# Altium integrated library Linear Technology Power Management Current Sources.IntLib: 79 symbols (part 3 of 7)
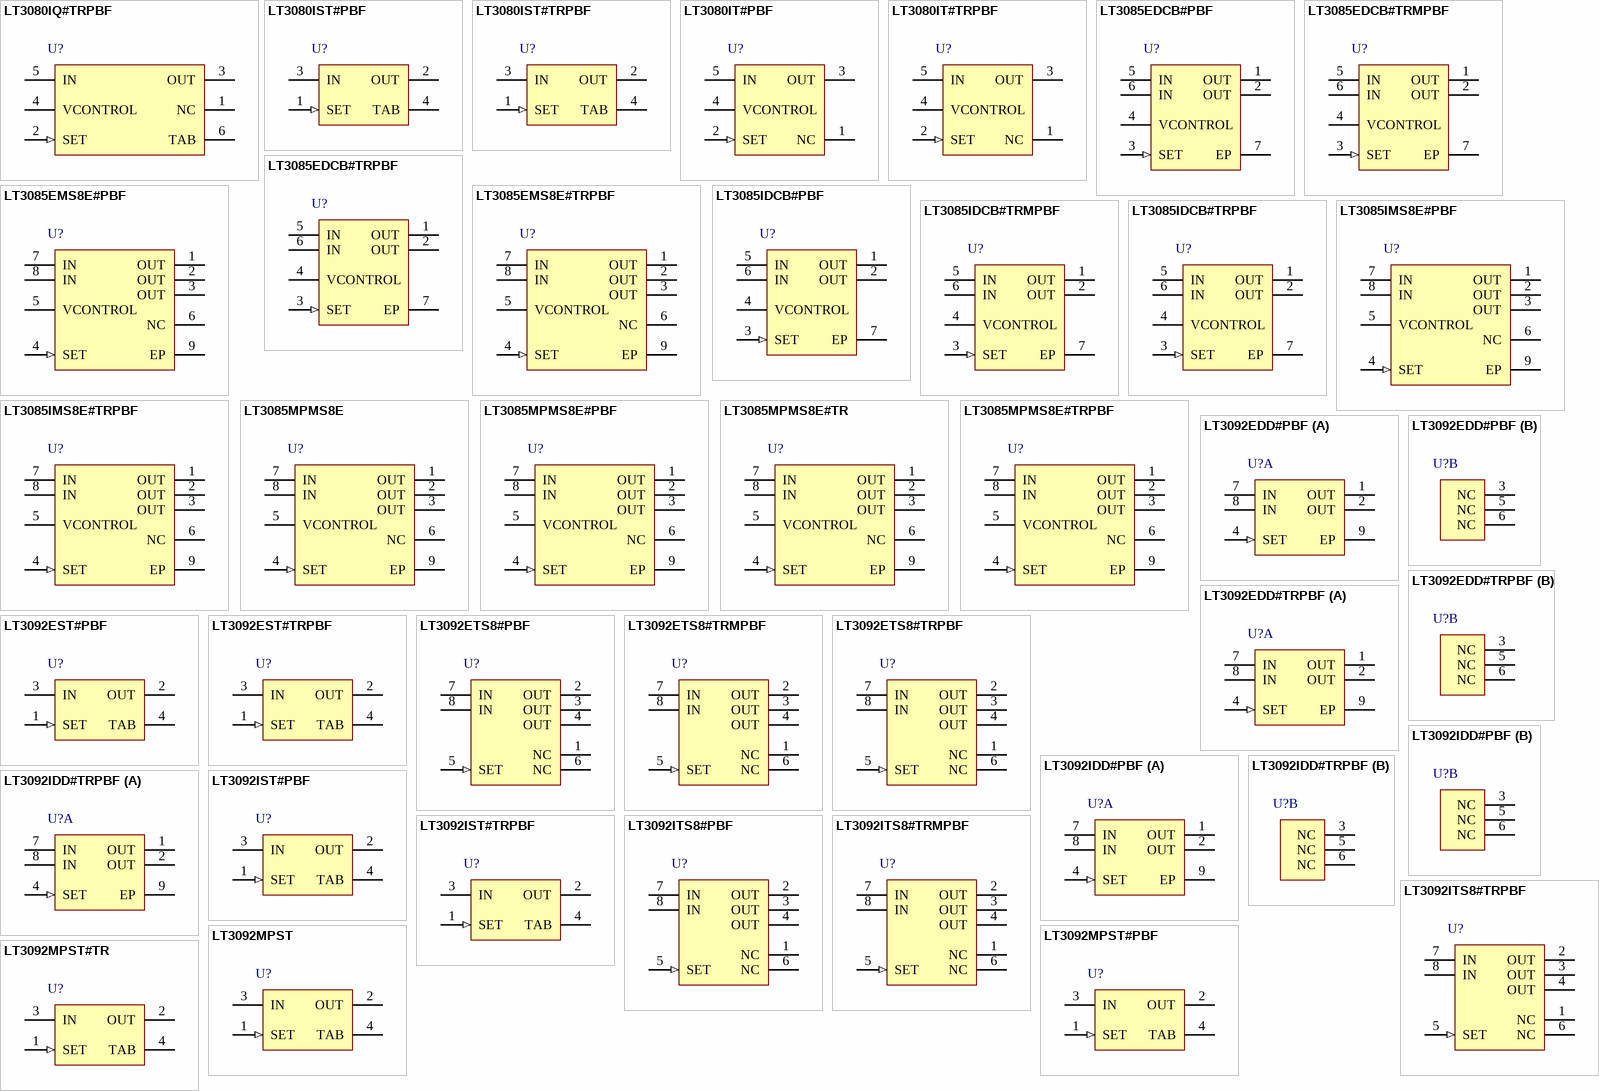
[diagram p4: symbols LT3080IQ#TRPBF to LT3092MPST#TR]

## LT3085EDCB#TRPBF
designator U?
Adjustable 500 mA Single Resistor Low Dropout Regulator, 0.3 mA Isupply, 6-pin SON (DCB-6), -40 to 125 degC, Pb-Free, Tape and Reel; Manufacturer: Linear Technology; PartNumber: LT3085EDCB#TRPBF; Extended Temp: E, I, MP; Initial Accuracy(%): 1; Isupply(mA): 0.3; Vin Max(V): 36; Vin Min(V): 1.2; DatasheetVersion: Rev. B; PackageVersion: Rev. A, 03/2011; PackageReference: DCB-6; PackageDescription: 6-Pin Plastic DFN, Body 2 x 3 mm, Pitch 0.5 mm; Supplier 1: Digi-Key; Supplier Part Number 1: LT3085EDCB#TRPBF-ND; Packing: Tape and Reel; RoHS: TRUE; Mounting Technology: Surface Mount; Code_JEDEC: MO-229; ComponentLink1Description: Manufacturer URL; ComponentLink1URL: http://www.linear.com/; ComponentLink2Description: Datasheet; ComponentLink2URL: http://cds.linear.com/docs/en/datasheet/3085fb.pdf; ComponentLink3Description: Package Specification; ComponentLink3URL: http://www.linear.com/docs/en/packaging/(DCB6)%20DFN%2005-08-1715%20Rev%20A.pdf
footprint LT-DCB-6_V (SON, 6-Leads, Body 3x2mm, Pitch 0.5mm, Thermal Pad 1.65x1.35mm)
pins: 1 OUT (power) "This is the power output of the device. There must be a minimum load current of 1mA or the output may not regulate. A minimum 2.2uF output capacitor is required for stability.", 2 OUT (power) "This is the power output of the device. There must be a minimum load current of 1mA or the output may not regulate. A minimum 2.2uF output capacitor is required for stability.", 3 SET (in) "This pin is the non-inverting input to the error amplifier and the regulation set point for the device. A fixed current of 10uA flows out of this pin through a single external resistor, which programs the output voltage of (See Datasheet)", 4 VCONTROL (power) "This pin is the supply pin for the control circuitry of the device. The current flow into this pin is about 1.7% of the output current. For the device to regulate, this voltage must be more than 1.2V to 1.35V greater than (See Datasheet)", 5 IN (power) "This is the collector to the power device of the LT3085. The output load current is supplied through this pin. For the device to regulate, the voltage at this pin must be more than 0.1V to 0.5V greater than the output (See Datasheet)", 6 IN (power) "This is the collector to the power device of the LT3085. The output load current is supplied through this pin. For the device to regulate, the voltage at this pin must be more than 0.1V to 0.5V greater than the output (See Datasheet)", 7 EP (power) "OUT. Tie directly to Pins 1, 2/Pins 2, 3 directly at the PCB."

## LT3085EMS8E#PBF
designator U?
Adjustable 500 mA Single Resistor Low Dropout Regulator, 0.3 mA Isupply, 8-pin SOP (MS8E-8), -40 to 125 degC, Pb-Free; Manufacturer: Linear Technology; PartNumber: LT3085EMS8E#PBF; Extended Temp: E, I, MP; Initial Accuracy(%): 1; Isupply(mA): 0.3; Vin Max(V): 36; Vin Min(V): 1.2; DatasheetVersion: Rev. B; PackageVersion: Rev. F; PackageReference: MS8E-8; PackageDescription: 8-Pin Plastic MSOP, Exposed Die Pad, Body 3 x 3 mm, Pitch 0.65 mm; Supplier 1: Digi-Key; Supplier Part Number 1: LT3085EMS8E#PBF-ND; Supplier 2: Farnell; Supplier Part Number 2: 1673523; Supplier 3: Newark; Supplier Part Number 3: 12P7608; RoHS: TRUE; Mounting Technology: Surface Mount; ComponentLink1Description: Manufacturer URL; ComponentLink1URL: http://www.linear.com/; ComponentLink2Description: Datasheet; ComponentLink2URL: http://cds.linear.com/docs/en/datasheet/3085fb.pdf; ComponentLink3Description: Package Specification; ComponentLink3URL: http://cds.linear.com/docs/en/datasheet/3080fc.pdf
footprint LT-MS8E-8-1880X1680TP_N (SOP, 8-Leads, Body 3x3mm, Pitch 0.65mm, Thermal Pad 1.88x1.68mm, IPC Medium Density)
footprint LT-MS8E-8-1880X1680TP_L (SOP, 8-Leads, Body 3x3mm, Pitch 0.65mm, Thermal Pad 1.88x1.68mm, IPC High Density)
footprint LT-MS8E-8-1880X1680TP_M (SOP, 8-Leads, Body 3x3mm, Pitch 0.65mm, Thermal Pad 1.88x1.68mm, IPC Low Density)
pins: 1 OUT (power) "This is the power output of the device. There must be a minimum load current of 1mA or the output may not regulate.", 2 OUT (power) "This is the power output of the device. There must be a minimum load current of 1mA or the output may not regulate.", 3 OUT (power) "This is the power output of the device. There must be a minimum load current of 1mA or the output may not regulate.", 4 SET (in) "This pin is the input to the error amplifier and the regulation set point for the device. A fixed current of 10uA flows out of this pin through a single external resistor, which programs the output voltage of the device. (See Datasheet)", 5 VCONTROL (power) "This pin is the supply pin for the control circuitry of the device. The current flow into this pin is about 1.7% of the output current. For the device to regulate, this voltage must be more than 1.2V to 1.35V greater than (See Datasheet)", 6 NC "No Connection. No Connect pins have no connection to internal circuitry and may be tied to VIN, VCONTROL, VOUT , GND, or floated.", 7 IN (power) "This is the collector to the power device of the LT3080-1. The output load current is supplied through this pin. For the device to regulate, the voltage at this pin must be more than 0.1V to 0.5V greater than the output (See Datasheet)", 8 IN (power) "This is the collector to the power device of the LT3080-1. The output load current is supplied through this pin. For the device to regulate, the voltage at this pin must be more than 0.1V to 0.5V greater than the output (See Datasheet)", 9 EP (power) "OUT on MS8E and DFN packages."

## LT3085EMS8E#TRPBF
designator U?
Adjustable 500 mA Single Resistor Low Dropout Regulator, 0.3 mA Isupply, 8-pin SOP (MS8E-8), -40 to 125 degC, Pb-Free, Tape and Reel; Manufacturer: Linear Technology; PartNumber: LT3085EMS8E#TRPBF; Extended Temp: E, I, MP; Initial Accuracy(%): 1; Isupply(mA): 0.3; Vin Max(V): 36; Vin Min(V): 1.2; DatasheetVersion: Rev. B; PackageVersion: Rev. F; PackageReference: MS8E-8; PackageDescription: 8-Pin Plastic MSOP, Exposed Die Pad, Body 3 x 3 mm, Pitch 0.65 mm; Supplier 1: Digi-Key; Supplier Part Number 1: LT3085EMS8E#TRPBF-ND; Supplier 2: Newark; Supplier Part Number 2: 12P7609; Packing: Tape and Reel; RoHS: TRUE; Mounting Technology: Surface Mount; ComponentLink1Description: Manufacturer URL; ComponentLink1URL: http://www.linear.com/; ComponentLink2Description: Datasheet; ComponentLink2URL: http://cds.linear.com/docs/en/datasheet/3085fb.pdf; ComponentLink3Description: Package Specification; ComponentLink3URL: http://cds.linear.com/docs/en/datasheet/3080fc.pdf
footprint LT-MS8E-8-1880X1680TP_N (SOP, 8-Leads, Body 3x3mm, Pitch 0.65mm, Thermal Pad 1.88x1.68mm, IPC Medium Density)
footprint LT-MS8E-8-1880X1680TP_L (SOP, 8-Leads, Body 3x3mm, Pitch 0.65mm, Thermal Pad 1.88x1.68mm, IPC High Density)
footprint LT-MS8E-8-1880X1680TP_M (SOP, 8-Leads, Body 3x3mm, Pitch 0.65mm, Thermal Pad 1.88x1.68mm, IPC Low Density)
pins: 1 OUT (power) "This is the power output of the device. There must be a minimum load current of 1mA or the output may not regulate.", 2 OUT (power) "This is the power output of the device. There must be a minimum load current of 1mA or the output may not regulate.", 3 OUT (power) "This is the power output of the device. There must be a minimum load current of 1mA or the output may not regulate.", 4 SET (in) "This pin is the input to the error amplifier and the regulation set point for the device. A fixed current of 10uA flows out of this pin through a single external resistor, which programs the output voltage of the device. (See Datasheet)", 5 VCONTROL (power) "This pin is the supply pin for the control circuitry of the device. The current flow into this pin is about 1.7% of the output current. For the device to regulate, this voltage must be more than 1.2V to 1.35V greater than (See Datasheet)", 6 NC "No Connection. No Connect pins have no connection to internal circuitry and may be tied to VIN, VCONTROL, VOUT , GND, or floated.", 7 IN (power) "This is the collector to the power device of the LT3080-1. The output load current is supplied through this pin. For the device to regulate, the voltage at this pin must be more than 0.1V to 0.5V greater than the output (See Datasheet)", 8 IN (power) "This is the collector to the power device of the LT3080-1. The output load current is supplied through this pin. For the device to regulate, the voltage at this pin must be more than 0.1V to 0.5V greater than the output (See Datasheet)", 9 EP (power) "OUT on MS8E and DFN packages."

## LT3085IDCB#PBF
designator U?
Adjustable 500 mA Single Resistor Low Dropout Regulator, 0.3 mA Isupply, 6-pin SON (DCB-6), -40 to 125 degC, Pb-Free; Manufacturer: Linear Technology; PartNumber: LT3085IDCB#PBF; Extended Temp: E, I, MP; Initial Accuracy(%): 1; Isupply(mA): 0.3; Vin Max(V): 36; Vin Min(V): 1.2; DatasheetVersion: Rev. B; PackageVersion: Rev. A, 03/2011; PackageReference: DCB-6; PackageDescription: 6-Pin Plastic DFN, Body 2 x 3 mm, Pitch 0.5 mm; RoHS: TRUE; Mounting Technology: Surface Mount; Code_JEDEC: MO-229; ComponentLink1Description: Manufacturer URL; ComponentLink1URL: http://www.linear.com/; ComponentLink2Description: Datasheet; ComponentLink2URL: http://cds.linear.com/docs/en/datasheet/3085fb.pdf; ComponentLink3Description: Package Specification; ComponentLink3URL: http://www.linear.com/docs/en/packaging/(DCB6)%20DFN%2005-08-1715%20Rev%20A.pdf
footprint LT-DCB-6_V (SON, 6-Leads, Body 3x2mm, Pitch 0.5mm, Thermal Pad 1.65x1.35mm)
pins: 1 OUT (power) "This is the power output of the device. There must be a minimum load current of 1mA or the output may not regulate. A minimum 2.2uF output capacitor is required for stability.", 2 OUT (power) "This is the power output of the device. There must be a minimum load current of 1mA or the output may not regulate. A minimum 2.2uF output capacitor is required for stability.", 3 SET (in) "This pin is the non-inverting input to the error amplifier and the regulation set point for the device. A fixed current of 10uA flows out of this pin through a single external resistor, which programs the output voltage of (See Datasheet)", 4 VCONTROL (power) "This pin is the supply pin for the control circuitry of the device. The current flow into this pin is about 1.7% of the output current. For the device to regulate, this voltage must be more than 1.2V to 1.35V greater than (See Datasheet)", 5 IN (power) "This is the collector to the power device of the LT3085. The output load current is supplied through this pin. For the device to regulate, the voltage at this pin must be more than 0.1V to 0.5V greater than the output (See Datasheet)", 6 IN (power) "This is the collector to the power device of the LT3085. The output load current is supplied through this pin. For the device to regulate, the voltage at this pin must be more than 0.1V to 0.5V greater than the output (See Datasheet)", 7 EP (power) "OUT. Tie directly to Pins 1, 2/Pins 2, 3 directly at the PCB."

## LT3085IDCB#TRMPBF
designator U?
Adjustable 500 mA Single Resistor Low Dropout Regulator, 0.3 mA Isupply, 6-pin SON (DCB-6), -40 to 125 degC, Pb-Free, Mini Tape and Reel; Manufacturer: Linear Technology; PartNumber: LT3085IDCB#TRMPBF; Extended Temp: E, I, MP; Initial Accuracy(%): 1; Isupply(mA): 0.3; Vin Max(V): 36; Vin Min(V): 1.2; DatasheetVersion: Rev. B; PackageVersion: Rev. A, 03/2011; PackageReference: DCB-6; PackageDescription: 6-Pin Plastic DFN, Body 2 x 3 mm, Pitch 0.5 mm; Supplier 1: Digi-Key; Supplier Part Number 1: LT3085IDCB#TRMPBF-ND; Packing: Mini Tape and Reel; RoHS: TRUE; Mounting Technology: Surface Mount; Code_JEDEC: MO-229; ComponentLink1Description: Manufacturer URL; ComponentLink1URL: http://www.linear.com/; ComponentLink2Description: Datasheet; ComponentLink2URL: http://cds.linear.com/docs/en/datasheet/3085fb.pdf; ComponentLink3Description: Package Specification; ComponentLink3URL: http://www.linear.com/docs/en/packaging/(DCB6)%20DFN%2005-08-1715%20Rev%20A.pdf
footprint LT-DCB-6_V (SON, 6-Leads, Body 3x2mm, Pitch 0.5mm, Thermal Pad 1.65x1.35mm)
pins: 1 OUT (power) "This is the power output of the device. There must be a minimum load current of 1mA or the output may not regulate. A minimum 2.2uF output capacitor is required for stability.", 2 OUT (power) "This is the power output of the device. There must be a minimum load current of 1mA or the output may not regulate. A minimum 2.2uF output capacitor is required for stability.", 3 SET (in) "This pin is the non-inverting input to the error amplifier and the regulation set point for the device. A fixed current of 10uA flows out of this pin through a single external resistor, which programs the output voltage of (See Datasheet)", 4 VCONTROL (power) "This pin is the supply pin for the control circuitry of the device. The current flow into this pin is about 1.7% of the output current. For the device to regulate, this voltage must be more than 1.2V to 1.35V greater than (See Datasheet)", 5 IN (power) "This is the collector to the power device of the LT3085. The output load current is supplied through this pin. For the device to regulate, the voltage at this pin must be more than 0.1V to 0.5V greater than the output (See Datasheet)", 6 IN (power) "This is the collector to the power device of the LT3085. The output load current is supplied through this pin. For the device to regulate, the voltage at this pin must be more than 0.1V to 0.5V greater than the output (See Datasheet)", 7 EP (power) "OUT. Tie directly to Pins 1, 2/Pins 2, 3 directly at the PCB."

## LT3085IDCB#TRPBF
designator U?
Adjustable 500 mA Single Resistor Low Dropout Regulator, 0.3 mA Isupply, 6-pin SON (DCB-6), -40 to 125 degC, Pb-Free, Tape and Reel; Manufacturer: Linear Technology; PartNumber: LT3085IDCB#TRPBF; Extended Temp: E, I, MP; Initial Accuracy(%): 1; Isupply(mA): 0.3; Vin Max(V): 36; Vin Min(V): 1.2; DatasheetVersion: Rev. B; PackageVersion: Rev. A, 03/2011; PackageReference: DCB-6; PackageDescription: 6-Pin Plastic DFN, Body 2 x 3 mm, Pitch 0.5 mm; Supplier 1: Digi-Key; Supplier Part Number 1: LT3085IDCB#TRPBF-ND; Supplier 2: Newark; Supplier Part Number 2: 12P7611; Packing: Tape and Reel; RoHS: TRUE; Mounting Technology: Surface Mount; Code_JEDEC: MO-229; ComponentLink1Description: Manufacturer URL; ComponentLink1URL: http://www.linear.com/; ComponentLink2Description: Datasheet; ComponentLink2URL: http://cds.linear.com/docs/en/datasheet/3085fb.pdf; ComponentLink3Description: Package Specification; ComponentLink3URL: http://www.linear.com/docs/en/packaging/(DCB6)%20DFN%2005-08-1715%20Rev%20A.pdf
footprint LT-DCB-6_V (SON, 6-Leads, Body 3x2mm, Pitch 0.5mm, Thermal Pad 1.65x1.35mm)
pins: 1 OUT (power) "This is the power output of the device. There must be a minimum load current of 1mA or the output may not regulate. A minimum 2.2uF output capacitor is required for stability.", 2 OUT (power) "This is the power output of the device. There must be a minimum load current of 1mA or the output may not regulate. A minimum 2.2uF output capacitor is required for stability.", 3 SET (in) "This pin is the non-inverting input to the error amplifier and the regulation set point for the device. A fixed current of 10uA flows out of this pin through a single external resistor, which programs the output voltage of (See Datasheet)", 4 VCONTROL (power) "This pin is the supply pin for the control circuitry of the device. The current flow into this pin is about 1.7% of the output current. For the device to regulate, this voltage must be more than 1.2V to 1.35V greater than (See Datasheet)", 5 IN (power) "This is the collector to the power device of the LT3085. The output load current is supplied through this pin. For the device to regulate, the voltage at this pin must be more than 0.1V to 0.5V greater than the output (See Datasheet)", 6 IN (power) "This is the collector to the power device of the LT3085. The output load current is supplied through this pin. For the device to regulate, the voltage at this pin must be more than 0.1V to 0.5V greater than the output (See Datasheet)", 7 EP (power) "OUT. Tie directly to Pins 1, 2/Pins 2, 3 directly at the PCB."

## LT3085IMS8E#PBF
designator U?
Adjustable 500 mA Single Resistor Low Dropout Regulator, 0.3 mA Isupply, 8-pin SOP (MS8E-8), -40 to 125 degC, Pb-Free; Manufacturer: Linear Technology; PartNumber: LT3085IMS8E#PBF; Extended Temp: E, I, MP; Initial Accuracy(%): 1; Isupply(mA): 0.3; Vin Max(V): 36; Vin Min(V): 1.2; DatasheetVersion: Rev. B; PackageVersion: Rev. F; PackageReference: MS8E-8; PackageDescription: 8-Pin Plastic MSOP, Exposed Die Pad, Body 3 x 3 mm, Pitch 0.65 mm; Supplier 1: Digi-Key; Supplier Part Number 1: LT3085IMS8E#PBF-ND; Supplier 2: Farnell; Supplier Part Number 2: 2295285; Supplier 3: Newark; Supplier Part Number 3: 12P7612; RoHS: TRUE; Mounting Technology: Surface Mount; ComponentLink1Description: Manufacturer URL; ComponentLink1URL: http://www.linear.com/; ComponentLink2Description: Datasheet; ComponentLink2URL: http://cds.linear.com/docs/en/datasheet/3085fb.pdf; ComponentLink3Description: Package Specification; ComponentLink3URL: http://cds.linear.com/docs/en/datasheet/3080fc.pdf
footprint LT-MS8E-8-1880X1680TP_N (SOP, 8-Leads, Body 3x3mm, Pitch 0.65mm, Thermal Pad 1.88x1.68mm, IPC Medium Density)
footprint LT-MS8E-8-1880X1680TP_L (SOP, 8-Leads, Body 3x3mm, Pitch 0.65mm, Thermal Pad 1.88x1.68mm, IPC High Density)
footprint LT-MS8E-8-1880X1680TP_M (SOP, 8-Leads, Body 3x3mm, Pitch 0.65mm, Thermal Pad 1.88x1.68mm, IPC Low Density)
pins: 1 OUT (power) "This is the power output of the device. There must be a minimum load current of 1mA or the output may not regulate.", 2 OUT (power) "This is the power output of the device. There must be a minimum load current of 1mA or the output may not regulate.", 3 OUT (power) "This is the power output of the device. There must be a minimum load current of 1mA or the output may not regulate.", 4 SET (in) "This pin is the input to the error amplifier and the regulation set point for the device. A fixed current of 10uA flows out of this pin through a single external resistor, which programs the output voltage of the device. (See Datasheet)", 5 VCONTROL (power) "This pin is the supply pin for the control circuitry of the device. The current flow into this pin is about 1.7% of the output current. For the device to regulate, this voltage must be more than 1.2V to 1.35V greater than (See Datasheet)", 6 NC "No Connection. No Connect pins have no connection to internal circuitry and may be tied to VIN, VCONTROL, VOUT , GND, or floated.", 7 IN (power) "This is the collector to the power device of the LT3080-1. The output load current is supplied through this pin. For the device to regulate, the voltage at this pin must be more than 0.1V to 0.5V greater than the output (See Datasheet)", 8 IN (power) "This is the collector to the power device of the LT3080-1. The output load current is supplied through this pin. For the device to regulate, the voltage at this pin must be more than 0.1V to 0.5V greater than the output (See Datasheet)", 9 EP (power) "OUT on MS8E and DFN packages."

## LT3085IMS8E#TRPBF
designator U?
Adjustable 500 mA Single Resistor Low Dropout Regulator, 0.3 mA Isupply, 8-pin SOP (MS8E-8), -40 to 125 degC, Pb-Free, Tape and Reel; Manufacturer: Linear Technology; PartNumber: LT3085IMS8E#TRPBF; Extended Temp: E, I, MP; Initial Accuracy(%): 1; Isupply(mA): 0.3; Vin Max(V): 36; Vin Min(V): 1.2; DatasheetVersion: Rev. B; PackageVersion: Rev. F; PackageReference: MS8E-8; PackageDescription: 8-Pin Plastic MSOP, Exposed Die Pad, Body 3 x 3 mm, Pitch 0.65 mm; Supplier 1: Digi-Key; Supplier Part Number 1: LT3085IMS8E#TRPBF-ND; Supplier 2: Newark; Supplier Part Number 2: 12P7613; Packing: Tape and Reel; RoHS: TRUE; Mounting Technology: Surface Mount; ComponentLink1Description: Manufacturer URL; ComponentLink1URL: http://www.linear.com/; ComponentLink2Description: Datasheet; ComponentLink2URL: http://cds.linear.com/docs/en/datasheet/3085fb.pdf; ComponentLink3Description: Package Specification; ComponentLink3URL: http://cds.linear.com/docs/en/datasheet/3080fc.pdf
footprint LT-MS8E-8-1880X1680TP_N (SOP, 8-Leads, Body 3x3mm, Pitch 0.65mm, Thermal Pad 1.88x1.68mm, IPC Medium Density)
footprint LT-MS8E-8-1880X1680TP_L (SOP, 8-Leads, Body 3x3mm, Pitch 0.65mm, Thermal Pad 1.88x1.68mm, IPC High Density)
footprint LT-MS8E-8-1880X1680TP_M (SOP, 8-Leads, Body 3x3mm, Pitch 0.65mm, Thermal Pad 1.88x1.68mm, IPC Low Density)
pins: 1 OUT (power) "This is the power output of the device. There must be a minimum load current of 1mA or the output may not regulate.", 2 OUT (power) "This is the power output of the device. There must be a minimum load current of 1mA or the output may not regulate.", 3 OUT (power) "This is the power output of the device. There must be a minimum load current of 1mA or the output may not regulate.", 4 SET (in) "This pin is the input to the error amplifier and the regulation set point for the device. A fixed current of 10uA flows out of this pin through a single external resistor, which programs the output voltage of the device. (See Datasheet)", 5 VCONTROL (power) "This pin is the supply pin for the control circuitry of the device. The current flow into this pin is about 1.7% of the output current. For the device to regulate, this voltage must be more than 1.2V to 1.35V greater than (See Datasheet)", 6 NC "No Connection. No Connect pins have no connection to internal circuitry and may be tied to VIN, VCONTROL, VOUT , GND, or floated.", 7 IN (power) "This is the collector to the power device of the LT3080-1. The output load current is supplied through this pin. For the device to regulate, the voltage at this pin must be more than 0.1V to 0.5V greater than the output (See Datasheet)", 8 IN (power) "This is the collector to the power device of the LT3080-1. The output load current is supplied through this pin. For the device to regulate, the voltage at this pin must be more than 0.1V to 0.5V greater than the output (See Datasheet)", 9 EP (power) "OUT on MS8E and DFN packages."

## LT3085MPMS8E
designator U?
Adjustable 500 mA Single Resistor Low Dropout Regulator, 0.3 mA Isupply, 8-pin SOP (MS8E-8), -55 to 125 degC; Manufacturer: Linear Technology; PartNumber: LT3085MPMS8E; Extended Temp: E, I, MP; Initial Accuracy(%): 1; Isupply(mA): 0.3; Vin Max(V): 36; Vin Min(V): 1.2; DatasheetVersion: Rev. B; PackageVersion: Rev. F; PackageReference: MS8E-8; PackageDescription: 8-Pin Plastic MSOP, Exposed Die Pad, Body 3 x 3 mm, Pitch 0.65 mm; Supplier 1: Newark; Supplier Part Number 1: 24R6739; RoHS: FALSE; Mounting Technology: Surface Mount; ComponentLink1Description: Manufacturer URL; ComponentLink1URL: http://www.linear.com/; ComponentLink2Description: Datasheet; ComponentLink2URL: http://cds.linear.com/docs/en/datasheet/3085fb.pdf; ComponentLink3Description: Package Specification; ComponentLink3URL: http://cds.linear.com/docs/en/datasheet/3080fc.pdf
footprint LT-MS8E-8-1880X1680TP_N (SOP, 8-Leads, Body 3x3mm, Pitch 0.65mm, Thermal Pad 1.88x1.68mm, IPC Medium Density)
footprint LT-MS8E-8-1880X1680TP_L (SOP, 8-Leads, Body 3x3mm, Pitch 0.65mm, Thermal Pad 1.88x1.68mm, IPC High Density)
footprint LT-MS8E-8-1880X1680TP_M (SOP, 8-Leads, Body 3x3mm, Pitch 0.65mm, Thermal Pad 1.88x1.68mm, IPC Low Density)
pins: 1 OUT (power) "This is the power output of the device. There must be a minimum load current of 1mA or the output may not regulate.", 2 OUT (power) "This is the power output of the device. There must be a minimum load current of 1mA or the output may not regulate.", 3 OUT (power) "This is the power output of the device. There must be a minimum load current of 1mA or the output may not regulate.", 4 SET (in) "This pin is the input to the error amplifier and the regulation set point for the device. A fixed current of 10uA flows out of this pin through a single external resistor, which programs the output voltage of the device. (See Datasheet)", 5 VCONTROL (power) "This pin is the supply pin for the control circuitry of the device. The current flow into this pin is about 1.7% of the output current. For the device to regulate, this voltage must be more than 1.2V to 1.35V greater than (See Datasheet)", 6 NC "No Connection. No Connect pins have no connection to internal circuitry and may be tied to VIN, VCONTROL, VOUT , GND, or floated.", 7 IN (power) "This is the collector to the power device of the LT3080-1. The output load current is supplied through this pin. For the device to regulate, the voltage at this pin must be more than 0.1V to 0.5V greater than the output (See Datasheet)", 8 IN (power) "This is the collector to the power device of the LT3080-1. The output load current is supplied through this pin. For the device to regulate, the voltage at this pin must be more than 0.1V to 0.5V greater than the output (See Datasheet)", 9 EP (power) "OUT on MS8E and DFN packages."

## LT3085MPMS8E#PBF
designator U?
Adjustable 500 mA Single Resistor Low Dropout Regulator, 0.3 mA Isupply, 8-pin SOP (MS8E-8), -55 to 125 degC, Pb-Free; Manufacturer: Linear Technology; PartNumber: LT3085MPMS8E#PBF; Extended Temp: E, I, MP; Initial Accuracy(%): 1; Isupply(mA): 0.3; Vin Max(V): 36; Vin Min(V): 1.2; DatasheetVersion: Rev. B; PackageVersion: Rev. F; PackageReference: MS8E-8; PackageDescription: 8-Pin Plastic MSOP, Exposed Die Pad, Body 3 x 3 mm, Pitch 0.65 mm; Supplier 1: Digi-Key; Supplier Part Number 1: LT3085MPMS8E#PBF-ND; Supplier 2: Farnell; Supplier Part Number 2: 2295286; Supplier 3: Newark; Supplier Part Number 3: 12P7614; RoHS: TRUE; Mounting Technology: Surface Mount; ComponentLink1Description: Manufacturer URL; ComponentLink1URL: http://www.linear.com/; ComponentLink2Description: Datasheet; ComponentLink2URL: http://cds.linear.com/docs/en/datasheet/3085fb.pdf; ComponentLink3Description: Package Specification; ComponentLink3URL: http://cds.linear.com/docs/en/datasheet/3080fc.pdf
footprint LT-MS8E-8-1880X1680TP_N (SOP, 8-Leads, Body 3x3mm, Pitch 0.65mm, Thermal Pad 1.88x1.68mm, IPC Medium Density)
footprint LT-MS8E-8-1880X1680TP_L (SOP, 8-Leads, Body 3x3mm, Pitch 0.65mm, Thermal Pad 1.88x1.68mm, IPC High Density)
footprint LT-MS8E-8-1880X1680TP_M (SOP, 8-Leads, Body 3x3mm, Pitch 0.65mm, Thermal Pad 1.88x1.68mm, IPC Low Density)
pins: 1 OUT (power) "This is the power output of the device. There must be a minimum load current of 1mA or the output may not regulate.", 2 OUT (power) "This is the power output of the device. There must be a minimum load current of 1mA or the output may not regulate.", 3 OUT (power) "This is the power output of the device. There must be a minimum load current of 1mA or the output may not regulate.", 4 SET (in) "This pin is the input to the error amplifier and the regulation set point for the device. A fixed current of 10uA flows out of this pin through a single external resistor, which programs the output voltage of the device. (See Datasheet)", 5 VCONTROL (power) "This pin is the supply pin for the control circuitry of the device. The current flow into this pin is about 1.7% of the output current. For the device to regulate, this voltage must be more than 1.2V to 1.35V greater than (See Datasheet)", 6 NC "No Connection. No Connect pins have no connection to internal circuitry and may be tied to VIN, VCONTROL, VOUT , GND, or floated.", 7 IN (power) "This is the collector to the power device of the LT3080-1. The output load current is supplied through this pin. For the device to regulate, the voltage at this pin must be more than 0.1V to 0.5V greater than the output (See Datasheet)", 8 IN (power) "This is the collector to the power device of the LT3080-1. The output load current is supplied through this pin. For the device to regulate, the voltage at this pin must be more than 0.1V to 0.5V greater than the output (See Datasheet)", 9 EP (power) "OUT on MS8E and DFN packages."

## LT3085MPMS8E#TR
designator U?
Adjustable 500 mA Single Resistor Low Dropout Regulator, 0.3 mA Isupply, 8-pin SOP (MS8E-8), -55 to 125 degC, Tape and Reel; Manufacturer: Linear Technology; PartNumber: LT3085MPMS8E#TR; Extended Temp: E, I, MP; Initial Accuracy(%): 1; Isupply(mA): 0.3; Vin Max(V): 36; Vin Min(V): 1.2; DatasheetVersion: Rev. B; PackageVersion: Rev. F; PackageReference: MS8E-8; PackageDescription: 8-Pin Plastic MSOP, Exposed Die Pad, Body 3 x 3 mm, Pitch 0.65 mm; Packing: Tape and Reel; RoHS: FALSE; Mounting Technology: Surface Mount; ComponentLink1Description: Manufacturer URL; ComponentLink1URL: http://www.linear.com/; ComponentLink2Description: Datasheet; ComponentLink2URL: http://cds.linear.com/docs/en/datasheet/3085fb.pdf; ComponentLink3Description: Package Specification; ComponentLink3URL: http://cds.linear.com/docs/en/datasheet/3080fc.pdf
footprint LT-MS8E-8-1880X1680TP_N (SOP, 8-Leads, Body 3x3mm, Pitch 0.65mm, Thermal Pad 1.88x1.68mm, IPC Medium Density)
footprint LT-MS8E-8-1880X1680TP_L (SOP, 8-Leads, Body 3x3mm, Pitch 0.65mm, Thermal Pad 1.88x1.68mm, IPC High Density)
footprint LT-MS8E-8-1880X1680TP_M (SOP, 8-Leads, Body 3x3mm, Pitch 0.65mm, Thermal Pad 1.88x1.68mm, IPC Low Density)
pins: 1 OUT (power) "This is the power output of the device. There must be a minimum load current of 1mA or the output may not regulate.", 2 OUT (power) "This is the power output of the device. There must be a minimum load current of 1mA or the output may not regulate.", 3 OUT (power) "This is the power output of the device. There must be a minimum load current of 1mA or the output may not regulate.", 4 SET (in) "This pin is the input to the error amplifier and the regulation set point for the device. A fixed current of 10uA flows out of this pin through a single external resistor, which programs the output voltage of the device. (See Datasheet)", 5 VCONTROL (power) "This pin is the supply pin for the control circuitry of the device. The current flow into this pin is about 1.7% of the output current. For the device to regulate, this voltage must be more than 1.2V to 1.35V greater than (See Datasheet)", 6 NC "No Connection. No Connect pins have no connection to internal circuitry and may be tied to VIN, VCONTROL, VOUT , GND, or floated.", 7 IN (power) "This is the collector to the power device of the LT3080-1. The output load current is supplied through this pin. For the device to regulate, the voltage at this pin must be more than 0.1V to 0.5V greater than the output (See Datasheet)", 8 IN (power) "This is the collector to the power device of the LT3080-1. The output load current is supplied through this pin. For the device to regulate, the voltage at this pin must be more than 0.1V to 0.5V greater than the output (See Datasheet)", 9 EP (power) "OUT on MS8E and DFN packages."

## LT3085MPMS8E#TRPBF
designator U?
Adjustable 500 mA Single Resistor Low Dropout Regulator, 0.3 mA Isupply, 8-pin SOP (MS8E-8), -55 to 125 degC, Pb-Free, Tape and Reel; Manufacturer: Linear Technology; PartNumber: LT3085MPMS8E#TRPBF; Extended Temp: E, I, MP; Initial Accuracy(%): 1; Isupply(mA): 0.3; Vin Max(V): 36; Vin Min(V): 1.2; DatasheetVersion: Rev. B; PackageVersion: Rev. F; PackageReference: MS8E-8; PackageDescription: 8-Pin Plastic MSOP, Exposed Die Pad, Body 3 x 3 mm, Pitch 0.65 mm; Supplier 1: Digi-Key; Supplier Part Number 1: LT3085MPMS8E#TRPBF-ND; Packing: Tape and Reel; RoHS: TRUE; Mounting Technology: Surface Mount; ComponentLink1Description: Manufacturer URL; ComponentLink1URL: http://www.linear.com/; ComponentLink2Description: Datasheet; ComponentLink2URL: http://cds.linear.com/docs/en/datasheet/3085fb.pdf; ComponentLink3Description: Package Specification; ComponentLink3URL: http://cds.linear.com/docs/en/datasheet/3080fc.pdf
footprint LT-MS8E-8-1880X1680TP_N (SOP, 8-Leads, Body 3x3mm, Pitch 0.65mm, Thermal Pad 1.88x1.68mm, IPC Medium Density)
footprint LT-MS8E-8-1880X1680TP_L (SOP, 8-Leads, Body 3x3mm, Pitch 0.65mm, Thermal Pad 1.88x1.68mm, IPC High Density)
footprint LT-MS8E-8-1880X1680TP_M (SOP, 8-Leads, Body 3x3mm, Pitch 0.65mm, Thermal Pad 1.88x1.68mm, IPC Low Density)
pins: 1 OUT (power) "This is the power output of the device. There must be a minimum load current of 1mA or the output may not regulate.", 2 OUT (power) "This is the power output of the device. There must be a minimum load current of 1mA or the output may not regulate.", 3 OUT (power) "This is the power output of the device. There must be a minimum load current of 1mA or the output may not regulate.", 4 SET (in) "This pin is the input to the error amplifier and the regulation set point for the device. A fixed current of 10uA flows out of this pin through a single external resistor, which programs the output voltage of the device. (See Datasheet)", 5 VCONTROL (power) "This pin is the supply pin for the control circuitry of the device. The current flow into this pin is about 1.7% of the output current. For the device to regulate, this voltage must be more than 1.2V to 1.35V greater than (See Datasheet)", 6 NC "No Connection. No Connect pins have no connection to internal circuitry and may be tied to VIN, VCONTROL, VOUT , GND, or floated.", 7 IN (power) "This is the collector to the power device of the LT3080-1. The output load current is supplied through this pin. For the device to regulate, the voltage at this pin must be more than 0.1V to 0.5V greater than the output (See Datasheet)", 8 IN (power) "This is the collector to the power device of the LT3080-1. The output load current is supplied through this pin. For the device to regulate, the voltage at this pin must be more than 0.1V to 0.5V greater than the output (See Datasheet)", 9 EP (power) "OUT on MS8E and DFN packages."

## LT3092EDD#PBF
designator U?
200 mA Two-Terminal Programmable Current Source, 0.3 mA Isupply, 8-pin SON (DD-8), -40 to 125 degC, Pb-Free; Manufacturer: Linear Technology; PartNumber: LT3092EDD#PBF; Extended Temp: E, I, MP; Initial Accuracy(%): 1; Isupply(mA): 0.3; Output Current Range: 0.5 mA to 200 mA; Vin Max(V): 40; Vin Min(V): 1.2; DatasheetVersion: Rev. B; PackageVersion: Jun-10; PackageReference: DD-8; PackageDescription: 8-Pin Plastic DFN, Body 3 x 3 mm, Pitch 0.5 mm; Supplier 1: Digi-Key; Supplier Part Number 1: LT3092EDD#PBF-ND; Supplier 2: Farnell; Supplier Part Number 2: 2295468; Supplier 3: Newark; Supplier Part Number 3: 72R5810; RoHS: TRUE; Mounting Technology: Surface Mount; Code_JEDEC: MO-229; ComponentLink1Description: Manufacturer URL; ComponentLink1URL: http://www.linear.com/; ComponentLink2Description: Datasheet; ComponentLink2URL: http://cds.linear.com/docs/en/datasheet/3092fb.pdf; ComponentLink3Description: Package Specification; ComponentLink3URL: http://cds.linear.com/docs/en/packaging/DFN_8_05-08-1698.pdf
footprint LT-DD-8_V (SON, 8-Leads, Body 3x3mm, Pitch 0.5mm, Thermal Pad 1.65x2.38 mm, IPC Low Density)
part A pins: 1 OUT (power) "This is the power output of the device. The minimum current source value to which the LT3092 can be set is 0.5mA or the device will not regulate.", 2 OUT (power) "This is the power output of the device. The minimum current source value to which the LT3092 can be set is 0.5mA or the device will not regulate.", 4 SET (in) "This pin is the error amplifier’s noninverting input and also sets the operating bias point of the circuit. A fixed 10uA current source flows out of this pin. Two resistors program IOUT as a function of the resistor rati(See Datasheet)", 7 IN (power) "This pin supplies power to bias internal circuitry and supply output load current. For the device to operate properly and regulate, the voltage on this pin must be 1.2V to 1.4V above the OUT pin (depending on output load (See Datasheet)", 8 IN (power) "This pin supplies power to bias internal circuitry and supply output load current. For the device to operate properly and regulate, the voltage on this pin must be 1.2V to 1.4V above the OUT pin (depending on output load (See Datasheet)", 9 EP (power) "Output. The Exposed Pad of the DFN package and the Tab of the SOT-223 package are tied internally to OUT. Tie them directly to the OUT pins (Pins 1, 2/Pin 2) at the PCB. The amount of copper area and planes connected to OUT (See Datasheet)"
part B pins: 3 NC "No Connection. These pins have no connection to internal circuitry and may be tied to IN, OUT, GND or floated.", 5 NC "No Connection. These pins have no connection to internal circuitry and may be tied to IN, OUT, GND or floated.", 6 NC "No Connection. These pins have no connection to internal circuitry and may be tied to IN, OUT, GND or floated."

## LT3092EDD#TRPBF
designator U?
200 mA Two-Terminal Programmable Current Source, 0.3 mA Isupply, 8-pin SON (DD-8), -40 to 125 degC, Pb-Free, Tape and Reel; Manufacturer: Linear Technology; PartNumber: LT3092EDD#TRPBF; Extended Temp: E, I, MP; Initial Accuracy(%): 1; Isupply(mA): 0.3; Output Current Range: 0.5 mA to 200 mA; Vin Max(V): 40; Vin Min(V): 1.2; DatasheetVersion: Rev. B; PackageVersion: Jun-10; PackageReference: DD-8; PackageDescription: 8-Pin Plastic DFN, Body 3 x 3 mm, Pitch 0.5 mm; Supplier 1: Digi-Key; Supplier Part Number 1: LT3092EDD#TRPBF-ND; Supplier 2: Newark; Supplier Part Number 2: 72R5811; Packing: Tape and Reel; RoHS: TRUE; Mounting Technology: Surface Mount; Code_JEDEC: MO-229; ComponentLink1Description: Manufacturer URL; ComponentLink1URL: http://www.linear.com/; ComponentLink2Description: Datasheet; ComponentLink2URL: http://cds.linear.com/docs/en/datasheet/3092fb.pdf; ComponentLink3Description: Package Specification; ComponentLink3URL: http://cds.linear.com/docs/en/packaging/DFN_8_05-08-1698.pdf
footprint LT-DD-8_V (SON, 8-Leads, Body 3x3mm, Pitch 0.5mm, Thermal Pad 1.65x2.38 mm, IPC Low Density)
part A pins: 1 OUT (power) "This is the power output of the device. The minimum current source value to which the LT3092 can be set is 0.5mA or the device will not regulate.", 2 OUT (power) "This is the power output of the device. The minimum current source value to which the LT3092 can be set is 0.5mA or the device will not regulate.", 4 SET (in) "This pin is the error amplifier’s noninverting input and also sets the operating bias point of the circuit. A fixed 10uA current source flows out of this pin. Two resistors program IOUT as a function of the resistor rati(See Datasheet)", 7 IN (power) "This pin supplies power to bias internal circuitry and supply output load current. For the device to operate properly and regulate, the voltage on this pin must be 1.2V to 1.4V above the OUT pin (depending on output load (See Datasheet)", 8 IN (power) "This pin supplies power to bias internal circuitry and supply output load current. For the device to operate properly and regulate, the voltage on this pin must be 1.2V to 1.4V above the OUT pin (depending on output load (See Datasheet)", 9 EP (power) "Output. The Exposed Pad of the DFN package and the Tab of the SOT-223 package are tied internally to OUT. Tie them directly to the OUT pins (Pins 1, 2/Pin 2) at the PCB. The amount of copper area and planes connected to OUT (See Datasheet)"
part B pins: 3 NC "No Connection. These pins have no connection to internal circuitry and may be tied to IN, OUT, GND or floated.", 5 NC "No Connection. These pins have no connection to internal circuitry and may be tied to IN, OUT, GND or floated.", 6 NC "No Connection. These pins have no connection to internal circuitry and may be tied to IN, OUT, GND or floated."

## LT3092EST#PBF
designator U?
200 mA Two-Terminal Programmable Current Source, 0.3 mA Isupply, 3-pin SOT223 (ST-3), -40 to 125 degC, Pb-Free; Manufacturer: Linear Technology; PartNumber: LT3092EST#PBF; Extended Temp: E, I, MP; Initial Accuracy(%): 1; Isupply(mA): 0.3; Output Current Range: 0.5 mA to 200 mA; Vin Max(V): 40; Vin Min(V): 1.2; DatasheetVersion: Rev. B; PackageVersion: Jun-10; PackageReference: ST-3; PackageDescription: 3-Pin Plastic SOT-223, Body 3.505 x 6.505 mm, Pitch 2.3 mm; Supplier 1: Digi-Key; Supplier Part Number 1: LT3092EST#PBF-ND; Supplier 2: Farnell; Supplier Part Number 2: 2295469; Supplier 3: Newark; Supplier Part Number 3: 72R5812; RoHS: TRUE; Mounting Technology: Surface Mount; ComponentLink1Description: Manufacturer URL; ComponentLink1URL: http://www.linear.com/; ComponentLink2Description: Datasheet; ComponentLink2URL: http://cds.linear.com/docs/en/datasheet/3092fb.pdf; ComponentLink3Description: Package Specification; ComponentLink3URL: http://cds.linear.com/docs/en/packaging/SOT_3_05-08-1630.pdf
footprint LT-ST-3-SOT-223_N (SOT223, 4-Leads, Body 6.505x3.505mm, Pitch 2.3mm, IPC Medium Density)
footprint LT-ST-3-SOT-223_L (SOT223, 4-Leads, Body 6.505x3.505mm, Pitch 2.3mm, IPC High Density)
footprint LT-ST-3-SOT-223_M (SOT223, 4-Leads, Body 6.505x3.505mm, Pitch 2.3mm, IPC Low Density)
pins: 1 SET (in) "This pin is the error amplifier’s noninverting input and also sets the operating bias point of the circuit. A fixed 10uA current source flows out of this pin. Two resistors program IOUT as a function of the resistor rati(See Datasheet)", 2 OUT (power) "This is the power output of the device. The minimum current source value to which the device can be set is 0.5mA or the device will not regulate.", 3 IN (power) "This pin supplies power to bias internal circuitry and supply output load current. For the device to operate properly and regulate, the voltage on this pin must be 1.2V to 1.4V above the OUT pin (depending on output load (See Datasheet)", 4 TAB (power)

## LT3092EST#TRPBF
designator U?
200 mA Two-Terminal Programmable Current Source, 0.3 mA Isupply, 3-pin SOT223 (ST-3), -40 to 125 degC, Pb-Free, Tape and Reel; Manufacturer: Linear Technology; PartNumber: LT3092EST#TRPBF; Extended Temp: E, I, MP; Initial Accuracy(%): 1; Isupply(mA): 0.3; Output Current Range: 0.5 mA to 200 mA; Vin Max(V): 40; Vin Min(V): 1.2; DatasheetVersion: Rev. B; PackageVersion: Jun-10; PackageReference: ST-3; PackageDescription: 3-Pin Plastic SOT-223, Body 3.505 x 6.505 mm, Pitch 2.3 mm; Supplier 1: Digi-Key; Supplier Part Number 1: LT3092EST#TRPBF-ND; Supplier 2: Newark; Supplier Part Number 2: 72R5813; Packing: Tape and Reel; RoHS: TRUE; Mounting Technology: Surface Mount; ComponentLink1Description: Manufacturer URL; ComponentLink1URL: http://www.linear.com/; ComponentLink2Description: Datasheet; ComponentLink2URL: http://cds.linear.com/docs/en/datasheet/3092fb.pdf; ComponentLink3Description: Package Specification; ComponentLink3URL: http://cds.linear.com/docs/en/packaging/SOT_3_05-08-1630.pdf
footprint LT-ST-3-SOT-223_N (SOT223, 4-Leads, Body 6.505x3.505mm, Pitch 2.3mm, IPC Medium Density)
footprint LT-ST-3-SOT-223_L (SOT223, 4-Leads, Body 6.505x3.505mm, Pitch 2.3mm, IPC High Density)
footprint LT-ST-3-SOT-223_M (SOT223, 4-Leads, Body 6.505x3.505mm, Pitch 2.3mm, IPC Low Density)
pins: 1 SET (in) "This pin is the error amplifier’s noninverting input and also sets the operating bias point of the circuit. A fixed 10uA current source flows out of this pin. Two resistors program IOUT as a function of the resistor rati(See Datasheet)", 2 OUT (power) "This is the power output of the device. The minimum current source value to which the device can be set is 0.5mA or the device will not regulate.", 3 IN (power) "This pin supplies power to bias internal circuitry and supply output load current. For the device to operate properly and regulate, the voltage on this pin must be 1.2V to 1.4V above the OUT pin (depending on output load (See Datasheet)", 4 TAB (power)

## LT3092ETS8#PBF
designator U?
200 mA Two-Terminal Programmable Current Source, 0.3 mA Isupply, 8-pin SOT23 (TS8-8), -40 to 125 degC, Pb-Free; Manufacturer: Linear Technology; PartNumber: LT3092ETS8#PBF; Extended Temp: E, I, MP; Initial Accuracy(%): 1; Isupply(mA): 0.3; Output Current Range: 0.5 mA to 200 mA; Vin Max(V): 40; Vin Min(V): 1.2; DatasheetVersion: Rev. B; PackageVersion: Rev. A, 08/2010; PackageReference: TS8-8; PackageDescription: 8-Pin Plastic TSOT-23, Body 2.9 x 1.63 mm, Pitch 0.65 mm; Supplier 1: Farnell; Supplier Part Number 1: 2295470; Supplier 2: Newark; Supplier Part Number 2: 33R1731; RoHS: TRUE; Mounting Technology: Surface Mount; Code_JEDEC: MO-193; ComponentLink1Description: Manufacturer URL; ComponentLink1URL: http://www.linear.com/; ComponentLink2Description: Datasheet; ComponentLink2URL: http://cds.linear.com/docs/en/datasheet/3092fb.pdf; ComponentLink3Description: Package Specification; ComponentLink3URL: http://cds.linear.com/docs/en/packaging/SOT_8_05-08-1637.pdf
footprint LT-TS8-8-TSOT-23_V (SOT23, 8-Leads, Body 2.90x1.63mm, Pitch 0.65mm, Recommended)
pins: 1 NC "No Connection. These pins have no connection to internal circuitry and may be tied to IN, OUT, GND or floated.", 2 OUT (power) "This is the power output of the device. The minimum current source value to which the LT3092 can be set is 0.5mA or the device will not regulate.", 3 OUT (power) "This is the power output of the device. The minimum current source value to which the LT3092 can be set is 0.5mA or the device will not regulate.", 4 OUT (power) "This is the power output of the device. The minimum current source value to which the LT3092 can be set is 0.5mA or the device will not regulate.", 5 SET (in) "This pin is the error amplifier’s noninverting input and also sets the operating bias point of the circuit. A fixed 10uA current source flows out of this pin. Two resistors program IOUT as a function of the resistor rati(See Datasheet)", 6 NC "No Connection. These pins have no connection to internal circuitry and may be tied to IN, OUT, GND or floated.", 7 IN (power) "This pin supplies power to bias internal circuitry and supply output load current. For the device to operate properly and regulate, the voltage on this pin must be 1.2V to 1.4V above the OUT pin (depending on output load (See Datasheet)", 8 IN (power) "This pin supplies power to bias internal circuitry and supply output load current. For the device to operate properly and regulate, the voltage on this pin must be 1.2V to 1.4V above the OUT pin (depending on output load (See Datasheet)"

## LT3092ETS8#TRMPBF
designator U?
200 mA Two-Terminal Programmable Current Source, 0.3 mA Isupply, 8-pin SOT23 (TS8-8), -40 to 125 degC, Pb-Free, Mini Tape and Reel; Manufacturer: Linear Technology; PartNumber: LT3092ETS8#TRMPBF; Extended Temp: E, I, MP; Initial Accuracy(%): 1; Isupply(mA): 0.3; Output Current Range: 0.5 mA to 200 mA; Vin Max(V): 40; Vin Min(V): 1.2; DatasheetVersion: Rev. B; PackageVersion: Rev. A, 08/2010; PackageReference: TS8-8; PackageDescription: 8-Pin Plastic TSOT-23, Body 2.9 x 1.63 mm, Pitch 0.65 mm; Supplier 1: Digi-Key; Supplier Part Number 1: LT3092ETS8#TRMPBFTR-ND; Supplier 2: Digi-Key; Supplier Part Number 2: LT3092ETS8#TRMPBFCT-ND; Supplier 3: Digi-Key; Supplier Part Number 3: LT3092ETS8#TRMPBFDKR-ND; Supplier 4: Newark; Supplier Part Number 4: 72R5814; Packing: Mini Tape and Reel; RoHS: TRUE; Mounting Technology: Surface Mount; Code_JEDEC: MO-193; ComponentLink1Description: Manufacturer URL; ComponentLink1URL: http://www.linear.com/; ComponentLink2Description: Datasheet; ComponentLink2URL: http://cds.linear.com/docs/en/datasheet/3092fb.pdf; ComponentLink3Description: Package Specification; ComponentLink3URL: http://cds.linear.com/docs/en/packaging/SOT_8_05-08-1637.pdf
footprint LT-TS8-8-TSOT-23_V (SOT23, 8-Leads, Body 2.90x1.63mm, Pitch 0.65mm, Recommended)
pins: 1 NC "No Connection. These pins have no connection to internal circuitry and may be tied to IN, OUT, GND or floated.", 2 OUT (power) "This is the power output of the device. The minimum current source value to which the LT3092 can be set is 0.5mA or the device will not regulate.", 3 OUT (power) "This is the power output of the device. The minimum current source value to which the LT3092 can be set is 0.5mA or the device will not regulate.", 4 OUT (power) "This is the power output of the device. The minimum current source value to which the LT3092 can be set is 0.5mA or the device will not regulate.", 5 SET (in) "This pin is the error amplifier’s noninverting input and also sets the operating bias point of the circuit. A fixed 10uA current source flows out of this pin. Two resistors program IOUT as a function of the resistor rati(See Datasheet)", 6 NC "No Connection. These pins have no connection to internal circuitry and may be tied to IN, OUT, GND or floated.", 7 IN (power) "This pin supplies power to bias internal circuitry and supply output load current. For the device to operate properly and regulate, the voltage on this pin must be 1.2V to 1.4V above the OUT pin (depending on output load (See Datasheet)", 8 IN (power) "This pin supplies power to bias internal circuitry and supply output load current. For the device to operate properly and regulate, the voltage on this pin must be 1.2V to 1.4V above the OUT pin (depending on output load (See Datasheet)"